# Altium integrated library Circuit Protection -VS_rev16a (1).intlib: 62 symbols
Pins are listed as number, name and electrical type; pins without a type are passive.

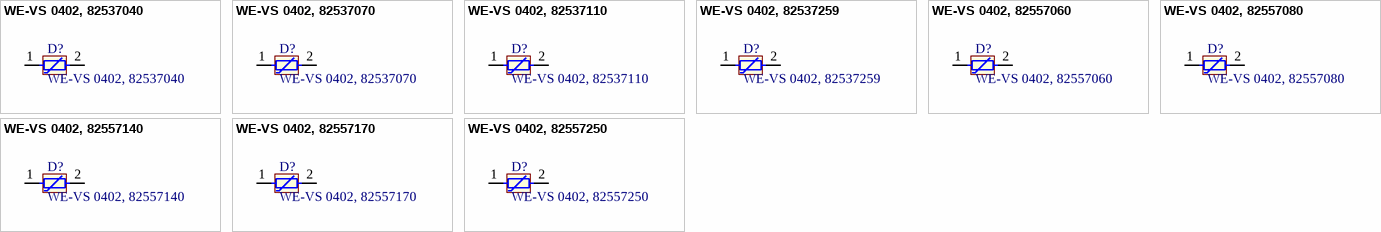
[diagram p0: symbols WE-VS 0402, 82537040 to WE-VS 0402, 82557250]

## WE-VS 0402, 82537040
designator D?
WE-VS SMD Varistor, 0402, VDC = 5.5V; Manufacturer: Wurth Elektronik; PartNo: 82537040; VDC: 5.5V; ComponentLink1Description: Manufacturer; ComponentLink1URL: http://www.we-online.de; Created by: BJ.Chen; Created Date: Jan 2016; ComponentLink2Description: Datasheet; ComponentLink2URL: http://katalog.we-online.de/pbs/datasheet/82537040.pdf
footprint WE-VS_0402
pins: 1 I/O1, 2 I/O1

## WE-VS 0402, 82537070
designator D?
WE-VS SMD Varistor, 0402, VDC = 9V; Manufacturer: Wurth Elektronik; PartNo: 82537070; VDC: 9V; ComponentLink1Description: Manufacturer; ComponentLink1URL: http://www.we-online.de; Created by: BJ.Chen; Created Date: Jan 2016; ComponentLink2Description: Datasheet; ComponentLink2URL: http://katalog.we-online.de/pbs/datasheet/82537070.pdf
footprint WE-VS_0402
pins: 1 I/O1, 2 I/O1

## WE-VS 0402, 82537110
designator D?
WE-VS SMD Varistor, 0402, VDC = 14V; Manufacturer: Wurth Elektronik; PartNo: 82537110; VDC: 14V; ComponentLink1Description: Manufacturer; ComponentLink1URL: http://www.we-online.de; Created by: BJ.Chen; Created Date: Jan 2016; ComponentLink2Description: Datasheet; ComponentLink2URL: http://katalog.we-online.de/pbs/datasheet/82537110.pdf
footprint WE-VS_0402
pins: 1 I/O1, 2 I/O1

## WE-VS 0402, 82537259
designator D?
WE-VS SMD Varistor, 0402, VDC = 3.3V; Manufacturer: Wurth Elektronik; PartNo: 82537259; VDC: 3.3V; ComponentLink1Description: Manufacturer; ComponentLink1URL: http://www.we-online.de; Created by: BJ.Chen; Created Date: Jan 2016; ComponentLink2Description: Datasheet; ComponentLink2URL: http://katalog.we-online.de/pbs/datasheet/82537259.pdf
footprint WE-VS_0402
pins: 1 I/O1, 2 I/O1

## WE-VS 0402, 82557060
designator D?
WE-VS SMD Varistor, 0402, VDC = 9V; Manufacturer: Wurth Elektronik; PartNo: 82557060; VDC: 9V; ComponentLink1Description: Manufacturer; ComponentLink1URL: http://www.we-online.de; Created by: BJ.Chen; Created Date: Jan 2016; ComponentLink2Description: Datasheet; ComponentLink2URL: http://katalog.we-online.de/pbs/datasheet/82557060.pdf
footprint WE-VS_0402
pins: 1 I/O1, 2 I/O1

## WE-VS 0402, 82557080
designator D?
WE-VS SMD Varistor, 0402, VDC = 11V; Manufacturer: Wurth Elektronik; PartNo: 82557080; VDC: 11V; ComponentLink1Description: Manufacturer; ComponentLink1URL: http://www.we-online.de; Created by: BJ.Chen; Created Date: Jan 2016; ComponentLink2Description: Datasheet; ComponentLink2URL: http://katalog.we-online.de/pbs/datasheet/82557080.pdf
footprint WE-VS_0402
pins: 1 I/O1, 2 I/O1

## WE-VS 0402, 82557140
designator D?
WE-VS SMD Varistor, 0402, VDC = 18V; Manufacturer: Wurth Elektronik; PartNo: 82557140; VDC: 18V; ComponentLink1Description: Manufacturer; ComponentLink1URL: http://www.we-online.de; Created by: BJ.Chen; Created Date: Jan 2016; ComponentLink2Description: Datasheet; ComponentLink2URL: http://katalog.we-online.de/pbs/datasheet/82557140.pdf
footprint WE-VS_0402
pins: 1 I/O1, 2 I/O1

## WE-VS 0402, 82557170
designator D?
WE-VS SMD Varistor, 0402, VDC = 22V; Manufacturer: Wurth Elektronik; PartNo: 82557170; VDC: 22V; ComponentLink1Description: Manufacturer; ComponentLink1URL: http://www.we-online.de; Created by: BJ.Chen; Created Date: Jan 2016; ComponentLink2Description: Datasheet; ComponentLink2URL: http://katalog.we-online.de/pbs/datasheet/82557170.pdf
footprint WE-VS_0402
pins: 1 I/O1, 2 I/O1

## WE-VS 0402, 82557250
designator D?
WE-VS SMD Varistor, 0402, VDC = 30V; Manufacturer: Wurth Elektronik; PartNo: 82557250; VDC: 30V; ComponentLink1Description: Manufacturer; ComponentLink1URL: http://www.we-online.de; Created by: BJ.Chen; Created Date: Jan 2016; ComponentLink2Description: Datasheet; ComponentLink2URL: http://katalog.we-online.de/pbs/datasheet/82557250.pdf
footprint WE-VS_0402
pins: 1 I/O1, 2 I/O1


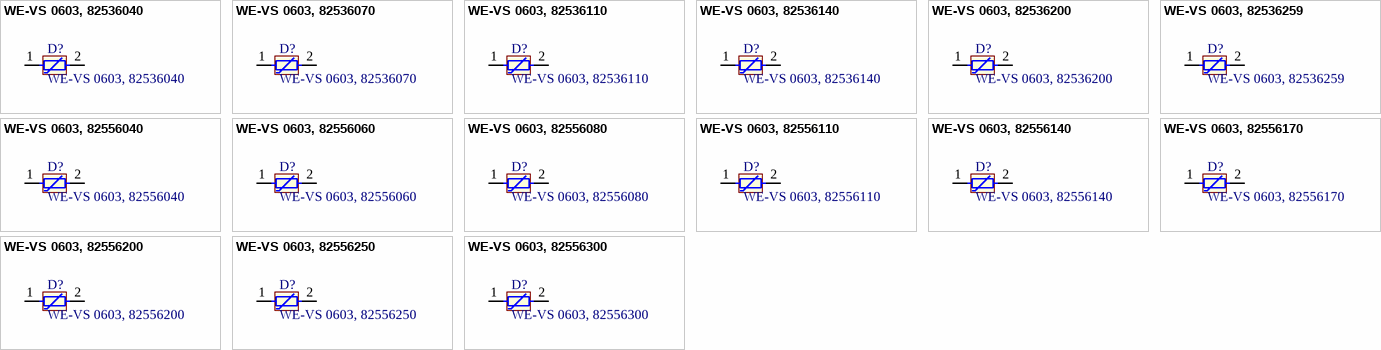
[diagram p1: symbols WE-VS 0603, 82536040 to WE-VS 0603, 82556300]

## WE-VS 0603, 82536040
designator D?
WE-VS SMD Varistor, 0603, VDC = 5.5V; Manufacturer: Wurth Elektronik; PartNo: 82536040; VDC: 5.5V; ComponentLink1Description: Manufacturer; ComponentLink1URL: http://www.we-online.de; Created by: BJ.Chen; Created Date: Jan 2016; ComponentLink2Description: Datasheet; ComponentLink2URL: http://katalog.we-online.de/pbs/datasheet/82536040.pdf
footprint WE-VS_0603
pins: 1 I/O1, 2 I/O1

## WE-VS 0603, 82536070
designator D?
WE-VS SMD Varistor, 0603, VDC = 9V; Manufacturer: Wurth Elektronik; PartNo: 82536070; VDC: 9V; ComponentLink1Description: Manufacturer; ComponentLink1URL: http://www.we-online.de; Created by: BJ.Chen; Created Date: Jan 2016; ComponentLink2Description: Datasheet; ComponentLink2URL: http://katalog.we-online.de/pbs/datasheet/82536070.pdf
footprint WE-VS_0603
pins: 1 I/O1, 2 I/O1

## WE-VS 0603, 82536110
designator D?
WE-VS SMD Varistor, 0603, VDC = 14V; Manufacturer: Wurth Elektronik; PartNo: 82536110; VDC: 14V; ComponentLink1Description: Manufacturer; ComponentLink1URL: http://www.we-online.de; Created by: BJ.Chen; Created Date: Jan 2016; ComponentLink2Description: Datasheet; ComponentLink2URL: http://katalog.we-online.de/pbs/datasheet/82536110.pdf
footprint WE-VS_0603
pins: 1 I/O1, 2 I/O1

## WE-VS 0603, 82536140
designator D?
WE-VS SMD Varistor, 0603, VDC = 18V; Manufacturer: Wurth Elektronik; PartNo: 82536140; VDC: 18V; ComponentLink1Description: Manufacturer; ComponentLink1URL: http://www.we-online.de; Created by: BJ.Chen; Created Date: Jan 2016; ComponentLink2Description: Datasheet; ComponentLink2URL: http://katalog.we-online.de/pbs/datasheet/82536140.pdf
footprint WE-VS_0603
pins: 1 I/O1, 2 I/O1

## WE-VS 0603, 82536200
designator D?
WE-VS SMD Varistor, 0603, VDC = 26V; Manufacturer: Wurth Elektronik; PartNo: 82536200; VDC: 26V; ComponentLink1Description: Manufacturer; ComponentLink1URL: http://www.we-online.de; Created by: BJ.Chen; Created Date: Jan 2016; ComponentLink2Description: Datasheet; ComponentLink2URL: http://katalog.we-online.de/pbs/datasheet/82536200.pdf
footprint WE-VS_0603
pins: 1 I/O1, 2 I/O1

## WE-VS 0603, 82536259
designator D?
WE-VS SMD Varistor, 0603, VDC = 3.3V; Manufacturer: Wurth Elektronik; PartNo: 82536259; VDC: 3.3V; ComponentLink1Description: Manufacturer; ComponentLink1URL: http://www.we-online.de; Created by: BJ.Chen; Created Date: Jan 2016; ComponentLink2Description: Datasheet; ComponentLink2URL: http://katalog.we-online.de/pbs/datasheet/82536259.pdf
footprint WE-VS_0603
pins: 1 I/O1, 2 I/O1

## WE-VS 0603, 82556040
designator D?
WE-VS SMD Varistor, 0603, VDC = 5.5V; Manufacturer: Wurth Elektronik; PartNo: 82556040; VDC: 5.5V; ComponentLink1Description: Manufacturer; ComponentLink1URL: http://www.we-online.de; Created by: BJ.Chen; Created Date: Jan 2016; ComponentLink2Description: Datasheet; ComponentLink2URL: http://katalog.we-online.de/pbs/datasheet/82556040.pdf
footprint WE-VS_0603
pins: 1 I/O1, 2 I/O1

## WE-VS 0603, 82556060
designator D?
WE-VS SMD Varistor, 0603, VDC = 9V; Manufacturer: Wurth Elektronik; PartNo: 82556060; VDC: 9V; ComponentLink1Description: Manufacturer; ComponentLink1URL: http://www.we-online.de; Created by: BJ.Chen; Created Date: Jan 2016; ComponentLink2Description: Datasheet; ComponentLink2URL: http://katalog.we-online.de/pbs/datasheet/82556060.pdf
footprint WE-VS_0603
pins: 1 I/O1, 2 I/O1

## WE-VS 0603, 82556080
designator D?
WE-VS SMD Varistor, 0603, VDC = 11V; Manufacturer: Wurth Elektronik; PartNo: 82556080; VDC: 11V; ComponentLink1Description: Manufacturer; ComponentLink1URL: http://www.we-online.de; Created by: BJ.Chen; Created Date: Jan 2016; ComponentLink2Description: Datasheet; ComponentLink2URL: http://katalog.we-online.de/pbs/datasheet/82556080.pdf
footprint WE-VS_0603
pins: 1 I/O1, 2 I/O1

## WE-VS 0603, 82556110
designator D?
WE-VS SMD Varistor, 0603, VDC = 14V; Manufacturer: Wurth Elektronik; PartNo: 82556110; VDC: 14V; ComponentLink1Description: Manufacturer; ComponentLink1URL: http://www.we-online.de; Created by: BJ.Chen; Created Date: Jan 2016; ComponentLink2Description: Datasheet; ComponentLink2URL: http://katalog.we-online.de/pbs/datasheet/82556110.pdf
footprint WE-VS_0603
pins: 1 I/O1, 2 I/O1

## WE-VS 0603, 82556140
designator D?
WE-VS SMD Varistor, 0603, VDC = 18V; Manufacturer: Wurth Elektronik; PartNo: 82556140; VDC: 18V; ComponentLink1Description: Manufacturer; ComponentLink1URL: http://www.we-online.de; Created by: BJ.Chen; Created Date: Jan 2016; ComponentLink2Description: Datasheet; ComponentLink2URL: http://katalog.we-online.de/pbs/datasheet/82556140.pdf
footprint WE-VS_0603
pins: 1 I/O1, 2 I/O1

## WE-VS 0603, 82556170
designator D?
WE-VS SMD Varistor, 0603, VDC = 22V; Manufacturer: Wurth Elektronik; PartNo: 82556170; VDC: 22V; ComponentLink1Description: Manufacturer; ComponentLink1URL: http://www.we-online.de; Created by: BJ.Chen; Created Date: Jan 2016; ComponentLink2Description: Datasheet; ComponentLink2URL: http://katalog.we-online.de/pbs/datasheet/82556170.pdf
footprint WE-VS_0603
pins: 1 I/O1, 2 I/O1

## WE-VS 0603, 82556200
designator D?
WE-VS SMD Varistor, 0603, VDC = 26V; Manufacturer: Wurth Elektronik; PartNo: 82556200; VDC: 26V; ComponentLink1Description: Manufacturer; ComponentLink1URL: http://www.we-online.de; Created by: BJ.Chen; Created Date: Jan 2016; ComponentLink2Description: Datasheet; ComponentLink2URL: http://katalog.we-online.de/pbs/datasheet/82556200.pdf
footprint WE-VS_0603
pins: 1 I/O1, 2 I/O1

## WE-VS 0603, 82556250
designator D?
WE-VS SMD Varistor, 0603, VDC = 30V; Manufacturer: Wurth Elektronik; PartNo: 82556250; VDC: 30V; ComponentLink1Description: Manufacturer; ComponentLink1URL: http://www.we-online.de; Created by: BJ.Chen; Created Date: Jan 2016; ComponentLink2Description: Datasheet; ComponentLink2URL: http://katalog.we-online.de/pbs/datasheet/82556250.pdf
footprint WE-VS_0603
pins: 1 I/O1, 2 I/O1

## WE-VS 0603, 82556300
designator D?
WE-VS SMD Varistor, 0603, VDC = 38V; Manufacturer: Wurth Elektronik; PartNo: 82556300; VDC: 38V; ComponentLink1Description: Manufacturer; ComponentLink1URL: http://www.we-online.de; Created by: BJ.Chen; Created Date: Jan 2016; ComponentLink2Description: Datasheet; ComponentLink2URL: http://katalog.we-online.de/pbs/datasheet/82556300.pdf
footprint WE-VS_0603
pins: 1 I/O1, 2 I/O1


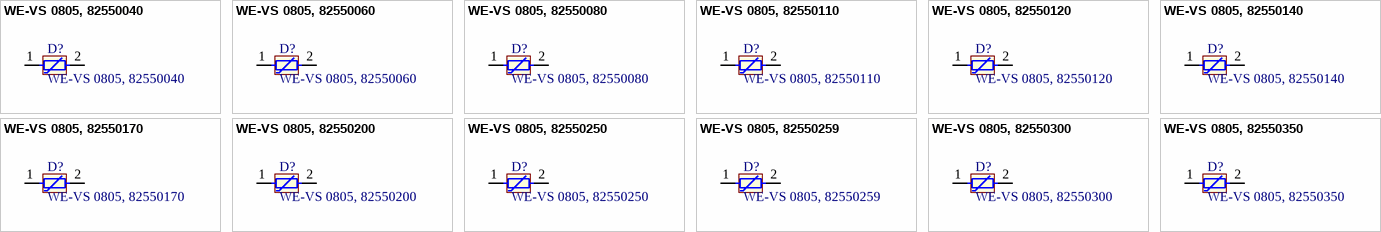
[diagram p2: symbols WE-VS 0805, 82550040 to WE-VS 0805, 82550350]

## WE-VS 0805, 82550040
designator D?
WE-VS SMD Varistor, 0805, VDC = 5.5V; Manufacturer: Wurth Elektronik; PartNo: 82550040; VDC: 5.5V; ComponentLink1Description: Manufacturer; ComponentLink1URL: http://www.we-online.de; Created by: BJ.Chen; Created Date: Jan 2016; ComponentLink2Description: Datasheet; ComponentLink2URL: http://katalog.we-online.de/pbs/datasheet/82550040.pdf
footprint WE-VS_0805
pins: 1 I/O1, 2 I/O1

## WE-VS 0805, 82550060
designator D?
WE-VS SMD Varistor, 0805, VDC = 9V; Manufacturer: Wurth Elektronik; PartNo: 82550060; VDC: 9V; ComponentLink1Description: Manufacturer; ComponentLink1URL: http://www.we-online.de; Created by: BJ.Chen; Created Date: Jan 2016; ComponentLink2Description: Datasheet; ComponentLink2URL: http://katalog.we-online.de/pbs/datasheet/82550060.pdf
footprint WE-VS_0805
pins: 1 I/O1, 2 I/O1

## WE-VS 0805, 82550080
designator D?
WE-VS SMD Varistor, 0805, VDC = 11V; Manufacturer: Wurth Elektronik; PartNo: 82550080; VDC: 11V; ComponentLink1Description: Manufacturer; ComponentLink1URL: http://www.we-online.de; Created by: BJ.Chen; Created Date: Jan 2016; ComponentLink2Description: Datasheet; ComponentLink2URL: http://katalog.we-online.de/pbs/datasheet/82550080.pdf
footprint WE-VS_0805
pins: 1 I/O1, 2 I/O1

## WE-VS 0805, 82550110
designator D?
WE-VS SMD Varistor, 0805, VDC = 14V; Manufacturer: Wurth Elektronik; PartNo: 82550110; VDC: 14V; ComponentLink1Description: Manufacturer; ComponentLink1URL: http://www.we-online.de; Created by: BJ.Chen; Created Date: Jan 2016; ComponentLink2Description: Datasheet; ComponentLink2URL: http://katalog.we-online.de/pbs/datasheet/82550110.pdf
footprint WE-VS_0805
pins: 1 I/O1, 2 I/O1

## WE-VS 0805, 82550120
designator D?
WE-VS SMD Varistor, 0805, VDC = 16.5V; Manufacturer: Wurth Elektronik; PartNo: 82550120; VDC: 16.5V; ComponentLink1Description: Manufacturer; ComponentLink1URL: http://www.we-online.de; Created by: BJ.Chen; Created Date: Jan 2016; ComponentLink2Description: Datasheet; ComponentLink2URL: http://katalog.we-online.de/pbs/datasheet/82550120.pdf
footprint WE-VS_0805
pins: 1 I/O1, 2 I/O1

## WE-VS 0805, 82550140
designator D?
WE-VS SMD Varistor, 0805, VDC = 18V; Manufacturer: Wurth Elektronik; PartNo: 82550140; VDC: 18V; ComponentLink1Description: Manufacturer; ComponentLink1URL: http://www.we-online.de; Created by: BJ.Chen; Created Date: Jan 2016; ComponentLink2Description: Datasheet; ComponentLink2URL: http://katalog.we-online.de/pbs/datasheet/82550140.pdf
footprint WE-VS_0805
pins: 1 I/O1, 2 I/O1

## WE-VS 0805, 82550170
designator D?
WE-VS SMD Varistor, 0805, VDC = 22V; Manufacturer: Wurth Elektronik; PartNo: 82550170; VDC: 22V; ComponentLink1Description: Manufacturer; ComponentLink1URL: http://www.we-online.de; Created by: BJ.Chen; Created Date: Jan 2016; ComponentLink2Description: Datasheet; ComponentLink2URL: http://katalog.we-online.de/pbs/datasheet/82550170.pdf
footprint WE-VS_0805
pins: 1 I/O1, 2 I/O1

## WE-VS 0805, 82550200
designator D?
WE-VS SMD Varistor, 0805, VDC = 26V; Manufacturer: Wurth Elektronik; PartNo: 82550200; VDC: 26V; ComponentLink1Description: Manufacturer; ComponentLink1URL: http://www.we-online.de; Created by: BJ.Chen; Created Date: Jan 2016; ComponentLink2Description: Datasheet; ComponentLink2URL: http://katalog.we-online.de/pbs/datasheet/82550200.pdf
footprint WE-VS_0805
pins: 1 I/O1, 2 I/O1

## WE-VS 0805, 82550250
designator D?
WE-VS SMD Varistor, 0805, VDC = 30V; Manufacturer: Wurth Elektronik; PartNo: 82550250; VDC: 30V; ComponentLink1Description: Manufacturer; ComponentLink1URL: http://www.we-online.de; Created by: BJ.Chen; Created Date: Jan 2016; ComponentLink2Description: Datasheet; ComponentLink2URL: http://katalog.we-online.de/pbs/datasheet/82550250.pdf
footprint WE-VS_0805
pins: 1 I/O1, 2 I/O1

## WE-VS 0805, 82550259
designator D?
WE-VS SMD Varistor, 0805, VDC = 3.3V; Manufacturer: Wurth Elektronik; PartNo: 82550259; VDC: 3.3V; ComponentLink1Description: Manufacturer; ComponentLink1URL: http://www.we-online.de; Created by: BJ.Chen; Created Date: Jan 2016; ComponentLink2Description: Datasheet; ComponentLink2URL: http://katalog.we-online.de/pbs/datasheet/82550259.pdf
footprint WE-VS_0805
pins: 1 I/O1, 2 I/O1

## WE-VS 0805, 82550300
designator D?
WE-VS SMD Varistor, 0805, VDC = 38V; Manufacturer: Wurth Elektronik; PartNo: 82550300; VDC: 38V; ComponentLink1Description: Manufacturer; ComponentLink1URL: http://www.we-online.de; Created by: BJ.Chen; Created Date: Jan 2016; ComponentLink2Description: Datasheet; ComponentLink2URL: http://katalog.we-online.de/pbs/datasheet/82550300.pdf
footprint WE-VS_0805
pins: 1 I/O1, 2 I/O1

## WE-VS 0805, 82550350
designator D?
WE-VS SMD Varistor, 0805, VDC = 45V; Manufacturer: Wurth Elektronik; PartNo: 82550350; VDC: 45V; ComponentLink1Description: Manufacturer; ComponentLink1URL: http://www.we-online.de; Created by: BJ.Chen; Created Date: Jan 2016; ComponentLink2Description: Datasheet; ComponentLink2URL: http://katalog.we-online.de/pbs/datasheet/82550350.pdf
footprint WE-VS_0805
pins: 1 I/O1, 2 I/O1


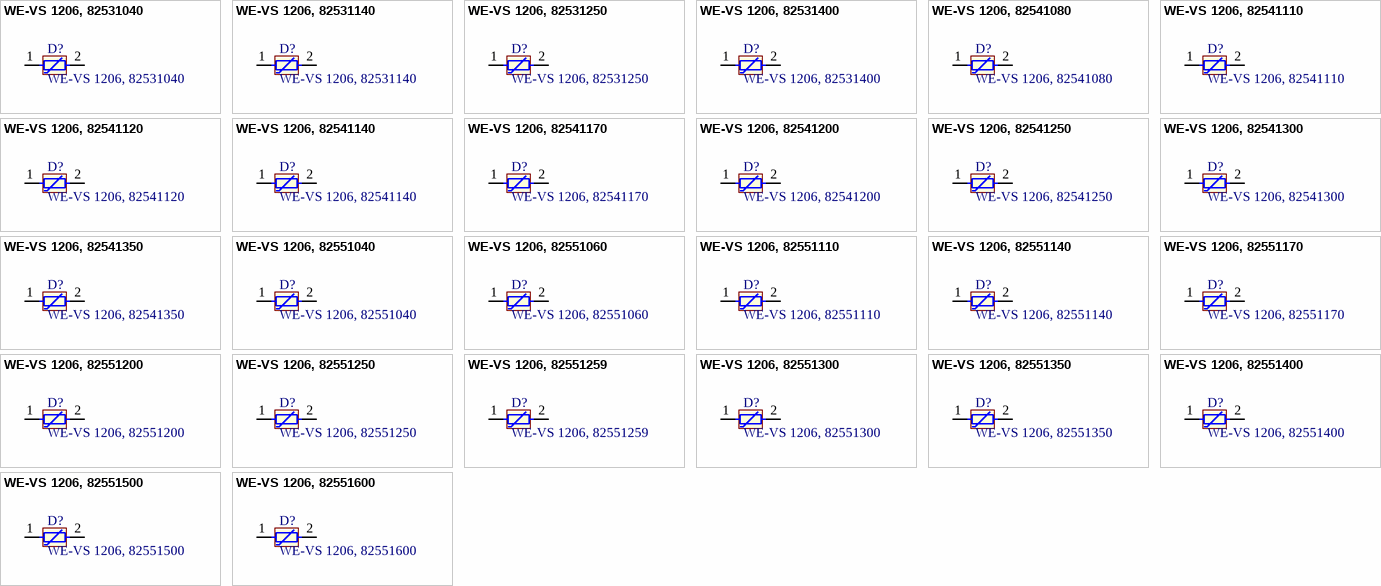
[diagram p3: symbols WE-VS 1206, 82531040 to WE-VS 1206, 82551600]

## WE-VS 1206, 82531040
designator D?
WE-VS SMD Varistor, 1206, VDC = 5.5V; Manufacturer: Wurth Elektronik; PartNo: 82531040; VDC: 5.5V; ComponentLink1Description: Manufacturer; ComponentLink1URL: http://www.we-online.de; Created by: BJ.Chen; Created Date: Jan 2016; ComponentLink2Description: Datasheet; ComponentLink2URL: http://katalog.we-online.de/pbs/datasheet/82531040.pdf
footprint WE-VS_1206
pins: 1 I/O1, 2 I/O1

## WE-VS 1206, 82531140
designator D?
WE-VS SMD Varistor, 1206, VDC = 18V; Manufacturer: Wurth Elektronik; PartNo: 82531140; VDC: 18V; ComponentLink1Description: Manufacturer; ComponentLink1URL: http://www.we-online.de; Created by: BJ.Chen; Created Date: Jan 2016; ComponentLink2Description: Datasheet; ComponentLink2URL: http://katalog.we-online.de/pbs/datasheet/82531140.pdf
footprint WE-VS_1206
pins: 1 I/O1, 2 I/O1

## WE-VS 1206, 82531250
designator D?
WE-VS SMD Varistor, 1206, VDC = 30V; Manufacturer: Wurth Elektronik; PartNo: 82531250; VDC: 30V; ComponentLink1Description: Manufacturer; ComponentLink1URL: http://www.we-online.de; Created by: BJ.Chen; Created Date: Jan 2016; ComponentLink2Description: Datasheet; ComponentLink2URL: http://katalog.we-online.de/pbs/datasheet/82531250.pdf
footprint WE-VS_1206
pins: 1 I/O1, 2 I/O1

## WE-VS 1206, 82531400
designator D?
WE-VS SMD Varistor, 1206, VDC = 56V; Manufacturer: Wurth Elektronik; PartNo: 82531400; VDC: 56V; ComponentLink1Description: Manufacturer; ComponentLink1URL: http://www.we-online.de; Created by: BJ.Chen; Created Date: Jan 2016; ComponentLink2Description: Datasheet; ComponentLink2URL: http://katalog.we-online.de/pbs/datasheet/82531400.pdf
footprint WE-VS_1206
pins: 1 I/O1, 2 I/O1

## WE-VS 1206, 82541080
designator D?
WE-VS SMD Varistor, 1206, VDC = 11V; Manufacturer: Wurth Elektronik; PartNo: 82541080; VDC: 11V; ComponentLink1Description: Manufacturer; ComponentLink1URL: http://www.we-online.de; Created by: BJ.Chen; Created Date: Jan 2016; ComponentLink2Description: Datasheet; ComponentLink2URL: http://katalog.we-online.de/pbs/datasheet/82541080.pdf
footprint WE-VS_1206
pins: 1 I/O1, 2 I/O1

## WE-VS 1206, 82541110
designator D?
WE-VS SMD Varistor, 1206, VDC = 14V; Manufacturer: Wurth Elektronik; PartNo: 82541110; VDC: 14V; ComponentLink1Description: Manufacturer; ComponentLink1URL: http://www.we-online.de; Created by: BJ.Chen; Created Date: Jan 2016; ComponentLink2Description: Datasheet; ComponentLink2URL: http://katalog.we-online.de/pbs/datasheet/82541110.pdf
footprint WE-VS_1206
pins: 1 I/O1, 2 I/O1

## WE-VS 1206, 82541120
designator D?
WE-VS SMD Varistor, 1206, VDC = 16.5V; Manufacturer: Wurth Elektronik; PartNo: 82541120; VDC: 16.5V; ComponentLink1Description: Manufacturer; ComponentLink1URL: http://www.we-online.de; Created by: BJ.Chen; Created Date: Jan 2016; ComponentLink2Description: Datasheet; ComponentLink2URL: http://katalog.we-online.de/pbs/datasheet/82541120.pdf
footprint WE-VS_1206
pins: 1 I/O1, 2 I/O1

## WE-VS 1206, 82541140
designator D?
WE-VS SMD Varistor, 1206, VDC = 18V; Manufacturer: Wurth Elektronik; PartNo: 82541140; VDC: 18V; ComponentLink1Description: Manufacturer; ComponentLink1URL: http://www.we-online.de; Created by: BJ.Chen; Created Date: Jan 2016; ComponentLink2Description: Datasheet; ComponentLink2URL: http://katalog.we-online.de/pbs/datasheet/82541140.pdf
footprint WE-VS_1206
pins: 1 I/O1, 2 I/O1

## WE-VS 1206, 82541170
designator D?
WE-VS SMD Varistor, 1206, VDC = 22V; Manufacturer: Wurth Elektronik; PartNo: 82541170; VDC: 22V; ComponentLink1Description: Manufacturer; ComponentLink1URL: http://www.we-online.de; Created by: BJ.Chen; Created Date: Jan 2016; ComponentLink2Description: Datasheet; ComponentLink2URL: http://katalog.we-online.de/pbs/datasheet/82541170.pdf
footprint WE-VS_1206
pins: 1 I/O1, 2 I/O1

## WE-VS 1206, 82541200
designator D?
WE-VS SMD Varistor, 1206, VDC = 26V; Manufacturer: Wurth Elektronik; PartNo: 82541200; VDC: 26V; ComponentLink1Description: Manufacturer; ComponentLink1URL: http://www.we-online.de; Created by: BJ.Chen; Created Date: Jan 2016; ComponentLink2Description: Datasheet; ComponentLink2URL: http://katalog.we-online.de/pbs/datasheet/82541200.pdf
footprint WE-VS_1206
pins: 1 I/O1, 2 I/O1

## WE-VS 1206, 82541250
designator D?
WE-VS SMD Varistor, 1206, VDC = 30V; Manufacturer: Wurth Elektronik; PartNo: 82541250; VDC: 30V; ComponentLink1Description: Manufacturer; ComponentLink1URL: http://www.we-online.de; Created by: BJ.Chen; Created Date: Jan 2016; ComponentLink2Description: Datasheet; ComponentLink2URL: http://katalog.we-online.de/pbs/datasheet/82541250.pdf
footprint WE-VS_1206
pins: 1 I/O1, 2 I/O1

## WE-VS 1206, 82541300
designator D?
WE-VS SMD Varistor, 1206, VDC = 38V; Manufacturer: Wurth Elektronik; PartNo: 82541300; VDC: 38V; ComponentLink1Description: Manufacturer; ComponentLink1URL: http://www.we-online.de; Created by: BJ.Chen; Created Date: Jan 2016; ComponentLink2Description: Datasheet; ComponentLink2URL: http://katalog.we-online.de/pbs/datasheet/82541300.pdf
footprint WE-VS_1206
pins: 1 I/O1, 2 I/O1

## WE-VS 1206, 82541350
designator D?
WE-VS SMD Varistor, 1206, VDC = 45V; Manufacturer: Wurth Elektronik; PartNo: 82541350; VDC: 45V; ComponentLink1Description: Manufacturer; ComponentLink1URL: http://www.we-online.de; Created by: BJ.Chen; Created Date: Jan 2016; ComponentLink2Description: Datasheet; ComponentLink2URL: http://katalog.we-online.de/pbs/datasheet/82541350.pdf
footprint WE-VS_1206
pins: 1 I/O1, 2 I/O1

## WE-VS 1206, 82551040
designator D?
WE-VS SMD Varistor, 1206, VDC = 5.5V; Manufacturer: Wurth Elektronik; PartNo: 82551040; VDC: 5.5V; ComponentLink1Description: Manufacturer; ComponentLink1URL: http://www.we-online.de; Created by: BJ.Chen; Created Date: Jan 2016; ComponentLink2Description: Datasheet; ComponentLink2URL: http://katalog.we-online.de/pbs/datasheet/82551040.pdf
footprint WE-VS_1206
pins: 1 I/O1, 2 I/O1

## WE-VS 1206, 82551060
designator D?
WE-VS SMD Varistor, 1206, VDC = 9V; Manufacturer: Wurth Elektronik; PartNo: 82551060; VDC: 9V; ComponentLink1Description: Manufacturer; ComponentLink1URL: http://www.we-online.de; Created by: BJ.Chen; Created Date: Jan 2016; ComponentLink2Description: Datasheet; ComponentLink2URL: http://katalog.we-online.de/pbs/datasheet/82551060.pdf
footprint WE-VS_1206
pins: 1 I/O1, 2 I/O1

## WE-VS 1206, 82551110
designator D?
WE-VS SMD Varistor, 1206, VDC = 14V; Manufacturer: Wurth Elektronik; PartNo: 82551110; VDC: 14V; ComponentLink1Description: Manufacturer; ComponentLink1URL: http://www.we-online.de; Created by: BJ.Chen; Created Date: Jan 2016; ComponentLink2Description: Datasheet; ComponentLink2URL: http://katalog.we-online.de/pbs/datasheet/82551110.pdf
footprint WE-VS_1206
pins: 1 I/O1, 2 I/O1

## WE-VS 1206, 82551140
designator D?
WE-VS SMD Varistor, 1206, VDC = 18V; Manufacturer: Wurth Elektronik; PartNo: 82551140; VDC: 18V; ComponentLink1Description: Manufacturer; ComponentLink1URL: http://www.we-online.de; Created by: BJ.Chen; Created Date: Jan 2016; ComponentLink2Description: Datasheet; ComponentLink2URL: http://katalog.we-online.de/pbs/datasheet/82551140.pdf
footprint WE-VS_1206
pins: 1 I/O1, 2 I/O1

## WE-VS 1206, 82551170
designator D?
WE-VS SMD Varistor, 1206, VDC = 22V; Manufacturer: Wurth Elektronik; PartNo: 82551170; VDC: 22V; ComponentLink1Description: Manufacturer; ComponentLink1URL: http://www.we-online.de; Created by: BJ.Chen; Created Date: Jan 2016; ComponentLink2Description: Datasheet; ComponentLink2URL: http://katalog.we-online.de/pbs/datasheet/82551170.pdf
footprint WE-VS_1206
pins: 1 I/O1, 2 I/O1

## WE-VS 1206, 82551200
designator D?
WE-VS SMD Varistor, 1206, VDC = 26V; Manufacturer: Wurth Elektronik; PartNo: 82551200; VDC: 26V; ComponentLink1Description: Manufacturer; ComponentLink1URL: http://www.we-online.de; Created by: BJ.Chen; Created Date: Jan 2016; ComponentLink2Description: Datasheet; ComponentLink2URL: http://katalog.we-online.de/pbs/datasheet/82551200.pdf
footprint WE-VS_1206
pins: 1 I/O1, 2 I/O1

## WE-VS 1206, 82551250
designator D?
WE-VS SMD Varistor, 1206, VDC = 30V; Manufacturer: Wurth Elektronik; PartNo: 82551250; VDC: 30V; ComponentLink1Description: Manufacturer; ComponentLink1URL: http://www.we-online.de; Created by: BJ.Chen; Created Date: Jan 2016; ComponentLink2Description: Datasheet; ComponentLink2URL: 82551250
footprint WE-VS_1206
pins: 1 I/O1, 2 I/O1

## WE-VS 1206, 82551259
designator D?
WE-VS SMD Varistor, 1206, VDC = 3.3V; Manufacturer: Wurth Elektronik; PartNo: 82551259; VDC: 3.3V; ComponentLink1Description: Manufacturer; ComponentLink1URL: http://www.we-online.de; Created by: BJ.Chen; Created Date: Jan 2016; ComponentLink2Description: Datasheet; ComponentLink2URL: http://katalog.we-online.de/pbs/datasheet/82551259.pdf
footprint WE-VS_1206
pins: 1 I/O1, 2 I/O1

## WE-VS 1206, 82551300
designator D?
WE-VS SMD Varistor, 1206, VDC = 38V; Manufacturer: Wurth Elektronik; PartNo: 82551300; VDC: 38V; ComponentLink1Description: Manufacturer; ComponentLink1URL: http://www.we-online.de; Created by: BJ.Chen; Created Date: Jan 2016; ComponentLink2Description: Datasheet; ComponentLink2URL: http://katalog.we-online.de/pbs/datasheet/82551300.pdf
footprint WE-VS_1206
pins: 1 I/O1, 2 I/O1

## WE-VS 1206, 82551350
designator D?
WE-VS SMD Varistor, 1206, VDC = 45V; Manufacturer: Wurth Elektronik; PartNo: 82551350; VDC: 45V; ComponentLink1Description: Manufacturer; ComponentLink1URL: http://www.we-online.de; Created by: BJ.Chen; Created Date: Jan 2016; ComponentLink2Description: Datasheet; ComponentLink2URL: http://katalog.we-online.de/pbs/datasheet/82551350.pdf
footprint WE-VS_1206
pins: 1 I/O1, 2 I/O1

## WE-VS 1206, 82551400
designator D?
WE-VS SMD Varistor, 1206, VDC = 56V; Manufacturer: Wurth Elektronik; PartNo: 82551400; VDC: 56V; ComponentLink1Description: Manufacturer; ComponentLink1URL: http://www.we-online.de; Created by: BJ.Chen; Created Date: Jan 2016; ComponentLink2Description: Datasheet; ComponentLink2URL: http://katalog.we-online.de/pbs/datasheet/82551400.pdf
footprint WE-VS_1206
pins: 1 I/O1, 2 I/O1

## WE-VS 1206, 82551500
designator D?
WE-VS SMD Varistor, 1206, VDC = 65V; Manufacturer: Wurth Elektronik; PartNo: 82551500; VDC: 65V; ComponentLink1Description: Manufacturer; ComponentLink1URL: http://www.we-online.de; Created by: BJ.Chen; Created Date: Jan 2016; ComponentLink2Description: Datasheet; ComponentLink2URL: http://katalog.we-online.de/pbs/datasheet/82551500.pdf
footprint WE-VS_1206
pins: 1 I/O1, 2 I/O1

## WE-VS 1206, 82551600
designator D?
WE-VS SMD Varistor, 1206, VDC = 85V; Manufacturer: Wurth Elektronik; PartNo: 82551600; VDC: 85V; ComponentLink1Description: Manufacturer; ComponentLink1URL: http://www.we-online.de; Created by: BJ.Chen; Created Date: Jan 2016; ComponentLink2Description: Datasheet; ComponentLink2URL: http://katalog.we-online.de/pbs/datasheet/82551600.pdf
footprint WE-VS_1206
pins: 1 I/O1, 2 I/O1